# Altium schematic symbol library CBC3150.Schlib: 1 symbol
Pins are listed as number, name and electrical type; pins without a type are passive.

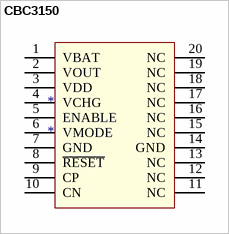
[diagram p0: symbol CBC3150]

## CBC3150
designator *
pins: 1 VBAT, 2 VOUT, 3 VDD, 4 VCHG, 5 ENABLE, 6 VMODE, 7 GND, 8 ~{RESET}, 9 CP, 10 CN, 11 NC, 12 NC, 13 NC, 14 GND, 15 NC, 16 NC, 17 NC, 18 NC, 19 NC, 20 NC